# Altium schematic symbol library IC 74LVC3G17DC,125.Schlib: 1 symbol
Pins are listed as number, name and electrical type; pins without a type are passive.

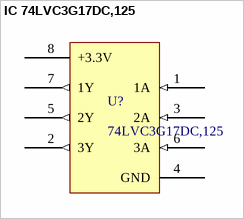
[diagram p0: symbol IC 74LVC3G17DC,125]

## IC 74LVC3G17DC,125
designator U?, comment 74LVC3G17DC,125
IC BUFFER TRIPLE SCHMITT TRIGGER 5.5V VSSOP-8
footprint 8-VSSOP
pins: 1 1A (in), 2 3Y (out), 3 2A (in), 4 GND (power), 5 2Y (out), 6 3A (in), 7 1Y (out), 8 +3.3V (power)